# EAGLE library part MK66FX1M0VLQ18 (library mk66fx1m0vmd18)
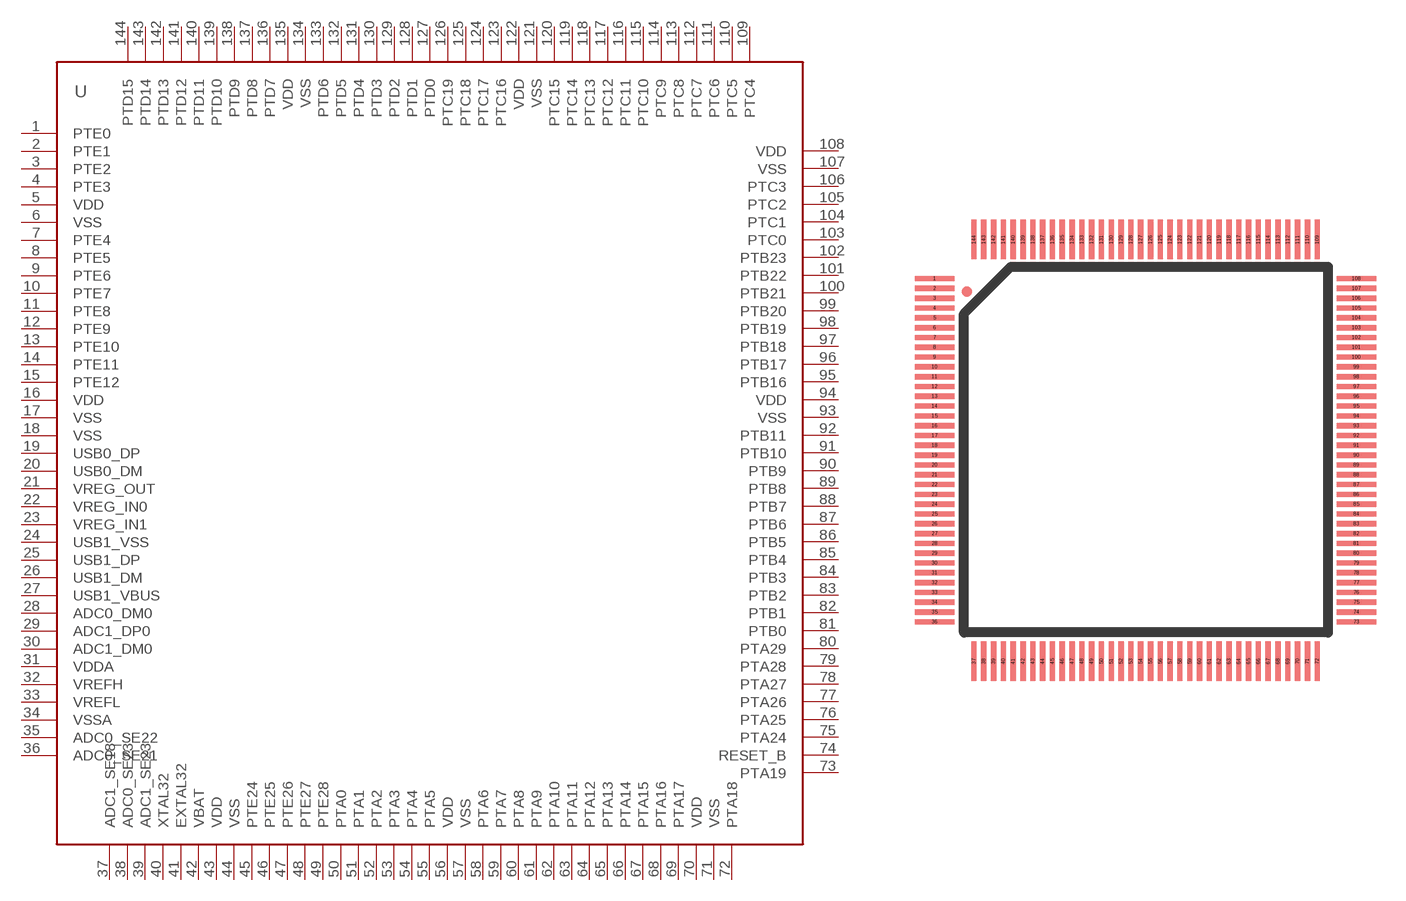
[diagram p1: symbol with the pads of TQFP144; footprint TQFP144]

Designator prefix -

## MK66FX1M0VLQ18  [TQFP144]
1  PTE0
2  PTE1
3  PTE2
4  PTE3
5  VDD  pwr
6  VSS  pwr
7  PTE4
8  PTE5
9  PTE6
10  PTE7
11  PTE8
12  PTE9
13  PTE10
14  PTE11
15  PTE12
16  VDD  pwr
17  VSS  pwr
18  VSS  pwr
19  USB0_DP
20  USB0_DM
21  VREG_OUT  pwr
22  VREG_IN0  pwr
23  VREG_IN1  pwr
24  USB1_VSS  pwr
25  USB1_DP
26  USB1_DM
27  USB1_VBUS  pwr
28  ADC0_DM0
29  ADC1_DP0
30  ADC1_DM0
31  VDDA  pwr
32  VREFH
33  VREFL
34  VSSA  pwr
35  ADC0_SE22
36  ADC0_SE21
37  ADC1_SE18
38  ADC0_SE23
39  ADC1_SE23
40  XTAL32  out
41  EXTAL32  in
42  VBAT  pwr
43  VDD  pwr
44  VSS  pwr
45  PTE24  out
46  PTE25  in
47  PTE26
48  PTE27
49  PTE28
50  PTA0  in
51  PTA1  in
52  PTA2  out
53  PTA3
54  PTA4
55  PTA5  in
56  VDD  pwr
57  VSS  pwr
58  PTA6
59  PTA7
60  PTA8
61  PTA9
62  PTA10
63  PTA11
64  PTA12
65  PTA13
66  PTA14
67  PTA15
68  PTA16
69  PTA17
70  VDD  pwr
71  VSS  pwr
72  PTA18  in
73  PTA19  out
74  RESET_B
75  PTA24
76  PTA25
77  PTA26
78  PTA27
79  PTA28
80  PTA29
81  PTB0
82  PTB1
83  PTB2
84  PTB3
85  PTB4
86  PTB5
87  PTB6
88  PTB7
89  PTB8
90  PTB9
91  PTB10
92  PTB11
93  VSS  pwr
94  VDD  pwr
95  PTB16
96  PTB17
97  PTB18
98  PTB19
99  PTB20
100  PTB21
101  PTB22
102  PTB23
103  PTC0
104  PTC1
105  PTC2
106  PTC3
107  VSS  pwr
108  VDD  pwr
109  PTC4
110  PTC5
111  PTC6
112  PTC7
113  PTC8
114  PTC9
115  PTC10
116  PTC11
117  PTC12
118  PTC13
119  PTC14
120  PTC15
121  VSS  pwr
122  VDD  pwr
123  PTC16
124  PTC17
125  PTC18
126  PTC19
127  PTD0
128  PTD1
129  PTD2
130  PTD3
131  PTD4
132  PTD5
133  PTD6
134  VSS  pwr
135  VDD  pwr
136  PTD7
137  PTD8
138  PTD9
139  PTD10
140  PTD11
141  PTD12
142  PTD13
143  PTD14
144  PTD15

## Footprint TQFP144 (pad centres in mm)
TQFP-144, from Altera. 0.5mm pin pitch. NOTICE - PCB should be laid out on a 0.5mm grid, or 0.0025" if you have to then finish routing manually. Use 0.008"max traces with 0.009"min clearances.
smd 2 x 0.27: 1 -10.54,8.29; 2 -10.54,7.79; 3 -10.54,7.29; 4 -10.54,6.79; 5 -10.54,6.29; 6 -10.54,5.79; 7 -10.54,5.29; 8 -10.54,4.79; 9 -10.54,4.29; 10 -10.54,3.79; 11 -10.54,3.29; 12 -10.54,2.79; 13 -10.54,2.29; 14 -10.54,1.79; 15 -10.54,1.29; 16 -10.54,0.79; 17 -10.54,0.29; 18 -10.54,-0.21; 19 -10.54,-0.71; 20 -10.54,-1.21; 21 -10.54,-1.71; 22 -10.54,-2.21; 23 -10.54,-2.71; 24 -10.54,-3.21; 25 -10.54,-3.71; 26 -10.54,-4.21; 27 -10.54,-4.71; 28 -10.54,-5.21; 29 -10.54,-5.71; 30 -10.54,-6.21; 31 -10.54,-6.71; 32 -10.54,-7.21; 33 -10.54,-7.71; 34 -10.54,-8.21; 35 -10.54,-8.71; 36 -10.54,-9.21; 73 10.96,-9.21; 74 10.96,-8.71; 75 10.96,-8.21; 76 10.96,-7.71; 77 10.96,-7.21; 78 10.96,-6.71; 79 10.96,-6.21; 80 10.96,-5.71; 81 10.96,-5.21; 82 10.96,-4.71; 83 10.96,-4.21; 84 10.96,-3.71; 85 10.96,-3.21; 86 10.96,-2.71; 87 10.96,-2.21; 88 10.96,-1.71; 89 10.96,-1.21; 90 10.96,-0.71; 91 10.96,-0.21; 92 10.96,0.29; 93 10.96,0.79; 94 10.96,1.29; 95 10.96,1.79; 96 10.96,2.29; 97 10.96,2.79; 98 10.96,3.29; 99 10.96,3.79; 100 10.96,4.29; 101 10.96,4.79; 102 10.96,5.29; 103 10.96,5.79; 104 10.96,6.29; 105 10.96,6.79; 106 10.96,7.29; 107 10.96,7.79; 108 10.96,8.29
smd 0.27 x 2: 37 -8.54,-11.21; 38 -8.04,-11.21; 39 -7.54,-11.21; 40 -7.04,-11.21; 41 -6.54,-11.21; 42 -6.04,-11.21; 43 -5.54,-11.21; 44 -5.04,-11.21; 45 -4.54,-11.21; 46 -4.04,-11.21; 47 -3.54,-11.21; 48 -3.04,-11.21; 49 -2.54,-11.21; 50 -2.04,-11.21; 51 -1.54,-11.21; 52 -1.04,-11.21; 53 -0.54,-11.21; 54 -0.04,-11.21; 55 0.46,-11.21; 56 0.96,-11.21; 57 1.46,-11.21; 58 1.96,-11.21; 59 2.46,-11.21; 60 2.96,-11.21; 61 3.46,-11.21; 62 3.96,-11.21; 63 4.46,-11.21; 64 4.96,-11.21; 65 5.46,-11.21; 66 5.96,-11.21; 67 6.46,-11.21; 68 6.96,-11.21; 69 7.46,-11.21; 70 7.96,-11.21; 71 8.46,-11.21; 72 8.96,-11.21; 109 8.96,10.29; 110 8.46,10.29; 111 7.96,10.29; 112 7.46,10.29; 113 6.96,10.29; 114 6.46,10.29; 115 5.96,10.29; 116 5.46,10.29; 117 4.96,10.29; 118 4.46,10.29; 119 3.96,10.29; 120 3.46,10.29; 121 2.96,10.29; 122 2.46,10.29; 123 1.96,10.29; 124 1.46,10.29; 125 0.96,10.29; 126 0.46,10.29; 127 -0.04,10.29; 128 -0.54,10.29; 129 -1.04,10.29; 130 -1.54,10.29; 131 -2.04,10.29; 132 -2.54,10.29; 133 -3.04,10.29; 134 -3.54,10.29; 135 -4.04,10.29; 136 -4.54,10.29; 137 -5.04,10.29; 138 -5.54,10.29; 139 -6.04,10.29; 140 -6.54,10.29; 141 -7.04,10.29; 142 -7.54,10.29; 143 -8.04,10.29; 144 -8.54,10.29